# Altium footprint library AltiumDesigner.PcbLib: 151 footprints (part 4 of 10)
Each footprint in its own frame and in the unit in brackets; x right, y up, seen from the top. Pads: shape width x height; smd on the part's side, far side on the other; paste and mask are expansions set on the pad; w line width, h text height; cw(c..) or ccw(c..) is an arc to the next point about the centre after c.
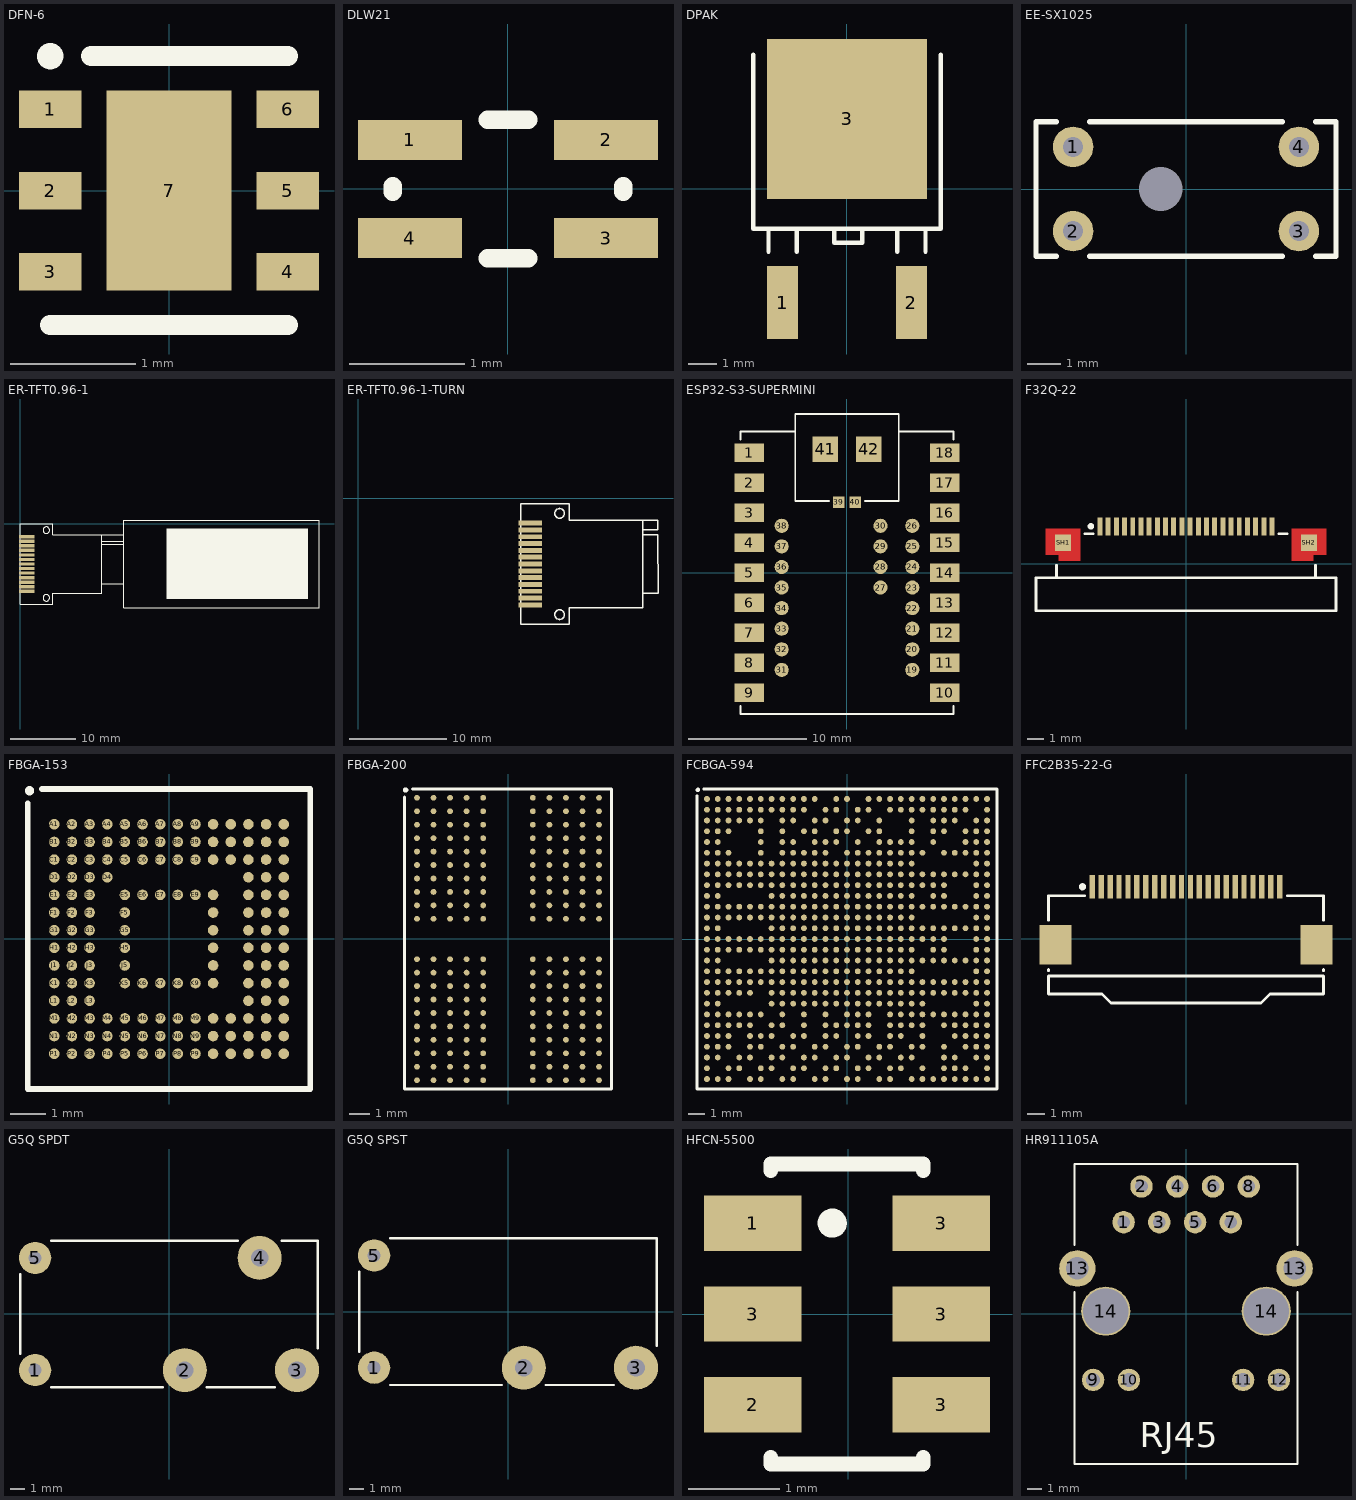
[diagram p3: the footprints below, top view; thin cyan lines are the x and y axes]

## DFN-6 [mm]
pads (7):
  rect 0.5x0.3 smd: 1(-0.95,0.65) 2(-0.95,0) 3(-0.95,-0.65) 4(0.95,-0.65) 5(0.95,0) 6(0.95,0.65)
  rect 1x1.6 smd: 7(0,0)
Top Overlay:
  circle w0.16: c-0.95,1.075 r0.025
  lines w0.16: -0.95,-1.075 0.95,-1.075 ; -0.625,1.075 0.95,1.075

## DLW21 [mm]
pads (4):
  rect 0.9x0.35 smd: 1(-0.85,0.425) 2(0.85,0.425) 3(0.85,-0.425) 4(-0.85,-0.425)
Top Overlay:
  lines w0.16: -1,-0.025 -1,0.025 ; -0.175,-0.6 0.175,-0.6 ; -0.175,0.6 0.175,0.6 ; 1,-0.025 1,0.025

## DPAK [mm]
pads (3):
  rect 1.1x2.6 smd: 1(-2.3,-4.05) 2(2.3,-4.05)
  rect 5.7x5.7 smd: 3(0,2.5)
Top Overlay:
  lines w0.16: -3.35,4.788 -3.35,-1.412 3.35,-1.413 3.35,4.787 ; -2.8,-2.238 -2.8,-1.413 ; -1.8,-2.238 -1.8,-1.413 ; -0.45,-1.413 -0.45,-1.925 0.55,-1.925 0.55,-1.413 ; 1.8,-2.238 1.8,-1.413 ; 2.8,-2.238 2.8,-1.413

## EE-SX1025 [mm]
pads (5):
  round 1.2 hole 0.6: 1(-3.35,1.25) 2(-3.35,-1.25) 3(3.35,-1.25) 4(3.35,1.25)
  round 1 hole 1.3 unplated: ""(-0.75,0)
Top Overlay:
  lines w0.16: -3.85,-2 -4.45,-2 -4.45,2 -3.85,2 ; -2.85,-2 2.85,-2 ; -2.85,2 2.85,2 ; 3.85,-2 4.45,-2 4.45,2 3.85,2

## ER-TFT0.96-1 [mm]
pads (13):
  rect 2.4x0.5 smd: 1(1,-10.4) 2(1,-9.7) 3(1,-9) 4(1,-8.3) 5(1,-7.6) 6(1,-6.9) 7(1,-6.2) 8(1,-5.5) 9(1,-4.8) 10(1,-4.1) 11(1,-3.4) 12(1,-2.7) 13(1,-2)
Top Overlay:
  circle w0.15: c4,-11.4 r0.5
  circle w0.15: c4,-1 r0.5
  rectangle: 22.5,-11.55 44.2,-0.75
  lines w0.15: 12.525,-9.2 15.9,-9.2 ; 12.525,-3.2 15.9,-3.2 ; 12.525,-2.7 15.9,-2.7 ; 15.9,-1.7 12.525,-1.7 ; 12.525,-1.7 12.525,-10.7 5,-10.7 5,-12.4 0,-12.4 0,0 5,0 5,-1.7 12.525,-1.7 ; 15.9,-12.95 15.9,0.55 45.9,0.55 45.9,-12.95 15.9,-12.95

## ER-TFT0.96-1-TURN [mm]
pads (13):
  rect 2.4x0.5 smd: 1(17.7,-10.95) 2(17.7,-10.25) 3(17.7,-9.55) 4(17.7,-8.85) 5(17.7,-8.15) 6(17.7,-7.45) 7(17.7,-6.75) 8(17.7,-6.05) 9(17.7,-5.35) 10(17.7,-4.65) 11(17.7,-3.95) 12(17.7,-3.25) 13(17.7,-2.55)
Top Overlay:
  circle w0.15: c20.7,-11.95 r0.5
  circle w0.15: c20.7,-1.55 r0.5
  lines w0.15: 29.225,-9.75 30.8,-9.75 30.8,-3.75 29.225,-3.75 ; 29.225,-3.25 30.8,-3.25 30.8,-2.25 29.225,-2.25 ; 29.225,-2.25 29.225,-11.25 21.7,-11.25 21.7,-12.95 16.7,-12.95 16.7,-0.55 21.7,-0.55 21.7,-2.25 29.225,-2.25
Bottom Overlay:
  rectangle: 1.7,-12.1 23.4,-1.3
  lines w0.15: 0,-13.5 0,0 30,0 30,-13.5 0,-13.5

## ESP32-S3-SUPERMINI [mm]
pads (42):
  rect 2.5x1.6 smd: 1(-8.3,10.2) 2(-8.3,7.65) 3(-8.3,5.1) 4(-8.3,2.55) 5(-8.3,0) 6(-8.3,-2.55) 7(-8.3,-5.1) 8(-8.3,-7.65) 9(-8.3,-10.2) 10(8.3,-10.2) 11(8.3,-7.65) 12(8.3,-5.1) 13(8.3,-2.55) 14(8.3,0) 15(8.3,2.55) 16(8.3,5.1) 17(8.3,7.65) 18(8.3,10.2)
  round 1.2 smd: 19(5.55,-8.25) 20(5.55,-6.5) 21(5.55,-4.75) 22(5.55,-3) 23(5.55,-1.25) 24(5.55,0.5) 25(5.55,2.25) 26(5.55,4) 27(2.85,-1.25) 28(2.85,0.5) 29(2.85,2.25) 30(2.85,4) 31(-5.55,-8.25) 32(-5.55,-6.5) 33(-5.55,-4.75) 34(-5.55,-3) 35(-5.55,-1.25) 36(-5.55,0.5) 37(-5.55,2.25) 38(-5.55,4)
  rect 1x1 smd: 39(-0.7,6) 40(0.7,6)
  rect 2.2x2.2 smd: 41(-1.85,10.5) 42(1.85,10.5)
Top Overlay:
  lines w0.16: -9.05,-11.325 -9.05,-12 9.05,-12 9.05,-11.325 ; -9.05,11.325 -9.05,12 -4.425,12 ; -1.525,6.1 -4.4,6.1 -4.4,13.5 4.4,13.5 4.4,6.1 1.525,6.1 ; 4.425,12 9.05,12 9.05,11.325

## F32Q-22 [mm]
pads (24):
  rect 0.3x1.1 smd: 1(-5.25,2.3) 2(-4.75,2.3) 3(-4.25,2.3) 4(-3.75,2.3) 5(-3.25,2.3) 6(-2.75,2.3) 7(-2.25,2.3) 8(-1.75,2.3) 9(-1.25,2.3) 10(-0.75,2.3) 11(-0.25,2.3) 12(0.25,2.3) 13(0.75,2.3) 14(1.25,2.3) 15(1.75,2.3) 16(2.25,2.3) 17(2.75,2.3) 18(3.25,2.3) 19(3.75,2.3) 20(4.25,2.3) 21(4.75,2.3) 22(5.25,2.3)
  rect 1x1 smd paste-1 mask+0: SH1(-7.5,1.3) SH2(7.5,1.3)
Top Layer:
  region: -6.45,0.2 -7.75,0.2 -7.75,0.55 -8.55,0.55 -8.55,2.15 -6.45,2.15
  region: 8.55,0.55 7.75,0.55 7.75,0.2 6.45,0.2 6.45,2.15 8.55,2.15
Top Overlay:
  circle w0.2: c-5.8,2.3 r0.1
  lines w0.16: -7.9,-0.85 -7.9,-0.075 ; -6.175,1.85 -5.675,1.85 ; 5.675,1.85 6.175,1.85 ; 7.9,-0.85 7.9,-0.075 ; -9.15,-2.85 9.15,-2.85 9.15,-0.85 -9.15,-0.85 -9.15,-2.85
Top Paste:
  region: 8.55,0.55 7.75,0.55 7.75,0.2 6.45,0.2 6.45,2.15 8.55,2.15
  region: -6.45,0.2 -7.75,0.2 -7.75,0.55 -8.55,0.55 -8.55,2.15 -6.45,2.15
Top Solder:
  region: 8.65,0.45 7.85,0.45 7.85,0.1 6.35,0.1 6.35,2.25 8.65,2.25
  region: -6.35,0.1 -7.85,0.1 -7.85,0.45 -8.65,0.45 -8.65,2.25 -6.35,2.25

## FBGA-153 [mm]
pads (153):
  round 0.3 smd: A1(-3.25,3.25) A2(-2.75,3.25) A3(-2.25,3.25) A4(-1.75,3.25) A5(-1.25,3.25) A6(-0.75,3.25) A7(-0.25,3.25) A8(0.25,3.25) A9(0.75,3.25) A10(1.25,3.25) A11(1.75,3.25) A12(2.25,3.25) A13(2.75,3.25) A14(3.25,3.25) B1(-3.25,2.75) B2(-2.75,2.75) B3(-2.25,2.75) B4(-1.75,2.75) B5(-1.25,2.75) B6(-0.75,2.75) B7(-0.25,2.75) B8(0.25,2.75) B9(0.75,2.75) B10(1.25,2.75) B11(1.75,2.75) B12(2.25,2.75) B13(2.75,2.75) B14(3.25,2.75) C1(-3.25,2.25) C2(-2.75,2.25) C3(-2.25,2.25) C4(-1.75,2.25) C5(-1.25,2.25) C6(-0.75,2.25) C7(-0.25,2.25) C8(0.25,2.25) C9(0.75,2.25) C10(1.25,2.25) C11(1.75,2.25) C12(2.25,2.25) C13(2.75,2.25) C14(3.25,2.25) D1(-3.25,1.75) D2(-2.75,1.75) D3(-2.25,1.75) D4(-1.75,1.75) D12(2.25,1.75) D13(2.75,1.75) D14(3.25,1.75) E1(-3.25,1.25) E2(-2.75,1.25) E3(-2.25,1.25) E5(-1.25,1.25) E6(-0.75,1.25) E7(-0.25,1.25) E8(0.25,1.25) E9(0.75,1.25) E10(1.25,1.25) E12(2.25,1.25) E13(2.75,1.25) E14(3.25,1.25) F1(-3.25,0.75) F2(-2.75,0.75) F3(-2.25,0.75) F5(-1.25,0.75) F10(1.25,0.75) F12(2.25,0.75) F13(2.75,0.75) F14(3.25,0.75) G1(-3.25,0.25) G2(-2.75,0.25) G3(-2.25,0.25) G5(-1.25,0.25) G10(1.25,0.25) G12(2.25,0.25) G13(2.75,0.25) G14(3.25,0.25) H1(-3.25,-0.25) H2(-2.75,-0.25) H3(-2.25,-0.25) H5(-1.25,-0.25) H10(1.25,-0.25) H12(2.25,-0.25) H13(2.75,-0.25) H14(3.25,-0.25) J1(-3.25,-0.75) J2(-2.75,-0.75) J3(-2.25,-0.75) J5(-1.25,-0.75) J10(1.25,-0.75) J12(2.25,-0.75) J13(2.75,-0.75) J14(3.25,-0.75) K1(-3.25,-1.25) K2(-2.75,-1.25) K3(-2.25,-1.25) K5(-1.25,-1.25) K6(-0.75,-1.25) K7(-0.25,-1.25) K8(0.25,-1.25) K9(0.75,-1.25) K10(1.25,-1.25) K12(2.25,-1.25) K13(2.75,-1.25) K14(3.25,-1.25) L1(-3.25,-1.75) L2(-2.75,-1.75) L3(-2.25,-1.75) L12(2.25,-1.75) L13(2.75,-1.75) L14(3.25,-1.75) M1(-3.25,-2.25) M2(-2.75,-2.25) M3(-2.25,-2.25) M4(-1.75,-2.25) M5(-1.25,-2.25) M6(-0.75,-2.25) M7(-0.25,-2.25) M8(0.25,-2.25) M9(0.75,-2.25) M10(1.25,-2.25) M11(1.75,-2.25) M12(2.25,-2.25) M13(2.75,-2.25) M14(3.25,-2.25) N1(-3.25,-2.75) N2(-2.75,-2.75) N3(-2.25,-2.75) N4(-1.75,-2.75) N5(-1.25,-2.75) N6(-0.75,-2.75) N7(-0.25,-2.75) N8(0.25,-2.75) N9(0.75,-2.75) N10(1.25,-2.75) N11(1.75,-2.75) N12(2.25,-2.75) N13(2.75,-2.75) N14(3.25,-2.75) P1(-3.25,-3.25) P2(-2.75,-3.25) P3(-2.25,-3.25) P4(-1.75,-3.25) P5(-1.25,-3.25) P6(-0.75,-3.25) P7(-0.25,-3.25) P8(0.25,-3.25) P9(0.75,-3.25) P10(1.25,-3.25) P11(1.75,-3.25) P12(2.25,-3.25) P13(2.75,-3.25) P14(3.25,-3.25)
Top Overlay:
  circle w0.16: c-3.95,4.2 r0.05
  lines w0.16: -4,3.85 -4,-4.25 4,-4.25 4,4.25 -3.6,4.25

## FBGA-200 [mm]
pads (200):
  round 0.28 smd: A1(-4.4,6.825) A2(-3.6,6.825) A3(-2.8,6.825) A4(-2,6.825) A5(-1.2,6.825) A8(1.2,6.825) A9(2,6.825) A10(2.8,6.825) A11(3.6,6.825) A12(4.4,6.825) AA1(-4.4,-6.175) AA2(-3.6,-6.175) AA3(-2.8,-6.175) AA4(-2,-6.175) AA5(-1.2,-6.175) AA8(1.2,-6.175) AA9(2,-6.175) AA10(2.8,-6.175) AA11(3.6,-6.175) AA12(4.4,-6.175) AB1(-4.4,-6.825) AB2(-3.6,-6.825) AB3(-2.8,-6.825) AB4(-2,-6.825) AB5(-1.2,-6.825) AB8(1.2,-6.825) AB9(2,-6.825) AB10(2.8,-6.825) AB11(3.6,-6.825) AB12(4.4,-6.825) B1(-4.4,6.175) B2(-3.6,6.175) B3(-2.8,6.175) B4(-2,6.175) B5(-1.2,6.175) B8(1.2,6.175) B9(2,6.175) B10(2.8,6.175) B11(3.6,6.175) B12(4.4,6.175) C1(-4.4,5.525) C2(-3.6,5.525) C3(-2.8,5.525) C4(-2,5.525) C5(-1.2,5.525) C8(1.2,5.525) C9(2,5.525) C10(2.8,5.525) C11(3.6,5.525) C12(4.4,5.525) D1(-4.4,4.875) D2(-3.6,4.875) D3(-2.8,4.875) D4(-2,4.875) D5(-1.2,4.875) D8(1.2,4.875) D9(2,4.875) D10(2.8,4.875) D11(3.6,4.875) D12(4.4,4.875) E1(-4.4,4.225) E2(-3.6,4.225) E3(-2.8,4.225) E4(-2,4.225) E5(-1.2,4.225) E8(1.2,4.225) E9(2,4.225) E10(2.8,4.225) E11(3.6,4.225) E12(4.4,4.225) F1(-4.4,3.575) F2(-3.6,3.575) F3(-2.8,3.575) F4(-2,3.575) F5(-1.2,3.575) F8(1.2,3.575) F9(2,3.575) F10(2.8,3.575) F11(3.6,3.575) F12(4.4,3.575) G1(-4.4,2.925) G2(-3.6,2.925) G3(-2.8,2.925) G4(-2,2.925) G5(-1.2,2.925) G8(1.2,2.925) G9(2,2.925) G10(2.8,2.925) G11(3.6,2.925) G12(4.4,2.925) H1(-4.4,2.275) H2(-3.6,2.275) H3(-2.8,2.275) H4(-2,2.275) H5(-1.2,2.275) H8(1.2,2.275) H9(2,2.275) H10(2.8,2.275) H11(3.6,2.275) H12(4.4,2.275) J1(-4.4,1.625) J2(-3.6,1.625) J3(-2.8,1.625) J4(-2,1.625) J5(-1.2,1.625) J8(1.2,1.625) J9(2,1.625) J10(2.8,1.625) J11(3.6,1.625) J12(4.4,1.625) K1(-4.4,0.975) K2(-3.6,0.975) K3(-2.8,0.975) K4(-2,0.975) K5(-1.2,0.975) K8(1.2,0.975) K9(2,0.975) K10(2.8,0.975) K11(3.6,0.975) K12(4.4,0.975) N1(-4.4,-0.975) N2(-3.6,-0.975) N3(-2.8,-0.975) N4(-2,-0.975) N5(-1.2,-0.975) N8(1.2,-0.975) N9(2,-0.975) N10(2.8,-0.975) N11(3.6,-0.975) N12(4.4,-0.975) P1(-4.4,-1.625) P2(-3.6,-1.625) P3(-2.8,-1.625) P4(-2,-1.625) P5(-1.2,-1.625) P8(1.2,-1.625) P9(2,-1.625) P10(2.8,-1.625) P11(3.6,-1.625) P12(4.4,-1.625) R1(-4.4,-2.275) R2(-3.6,-2.275) R3(-2.8,-2.275) R4(-2,-2.275) R5(-1.2,-2.275) R8(1.2,-2.275) R9(2,-2.275) R10(2.8,-2.275) R11(3.6,-2.275) R12(4.4,-2.275) T1(-4.4,-2.925) T2(-3.6,-2.925) T3(-2.8,-2.925) T4(-2,-2.925) T5(-1.2,-2.925) T8(1.2,-2.925) T9(2,-2.925) T10(2.8,-2.925) T11(3.6,-2.925) T12(4.4,-2.925) U1(-4.4,-3.575) U2(-3.6,-3.575) U3(-2.8,-3.575) U4(-2,-3.575) U5(-1.2,-3.575) U8(1.2,-3.575) U9(2,-3.575) U10(2.8,-3.575) U11(3.6,-3.575) U12(4.4,-3.575) V1(-4.4,-4.225) V2(-3.6,-4.225) V3(-2.8,-4.225) V4(-2,-4.225) V5(-1.2,-4.225) V8(1.2,-4.225) V9(2,-4.225) V10(2.8,-4.225) V11(3.6,-4.225) V12(4.4,-4.225) W1(-4.4,-4.875) W2(-3.6,-4.875) W3(-2.8,-4.875) W4(-2,-4.875) W5(-1.2,-4.875) W8(1.2,-4.875) W9(2,-4.875) W10(2.8,-4.875) W11(3.6,-4.875) W12(4.4,-4.875) Y1(-4.4,-5.525) Y2(-3.6,-5.525) Y3(-2.8,-5.525) Y4(-2,-5.525) Y5(-1.2,-5.525) Y8(1.2,-5.525) Y9(2,-5.525) Y10(2.8,-5.525) Y11(3.6,-5.525) Y12(4.4,-5.525)
Top Overlay:
  circle w0.16: c-4.95,7.2 r0.05
  lines w0.16: -5,6.85 -5,-7.25 5,-7.25 5,7.25 -4.6,7.25

## FCBGA-594 [mm]
pads (594):
  round 0.35 smd: A1(-8.45,8.45) A2(-7.8,8.45) A3(-7.15,8.45) A4(-6.5,8.45) A5(-5.85,8.45) A6(-5.2,8.45) A7(-4.55,8.45) A8(-3.9,8.45) A9(-3.25,8.45) A10(-2.6,8.45) A11(-1.95,8.45) A13(-0.65,8.45) A14(0,8.45) A16(1.3,8.45) A17(1.95,8.45) A18(2.6,8.45) A19(3.25,8.45) A20(3.9,8.45) A21(4.55,8.45) A22(5.2,8.45) A23(5.85,8.45) A24(6.5,8.45) A25(7.15,8.45) A26(7.8,8.45) A27(8.45,8.45) AA1(-8.45,-4.55) AA2(-7.8,-4.55) AA3(-7.15,-4.55) AA4(-6.5,-4.55) AA5(-5.85,-4.55) AA6(-5.2,-4.55) AA8(-3.9,-4.55) AA10(-2.6,-4.55) AA12(-1.3,-4.55) AA14(0,-4.55) AA15(0.65,-4.55) AA16(1.3,-4.55) AA18(2.6,-4.55) AA19(3.25,-4.55) AA20(3.9,-4.55) AA21(4.55,-4.55) AA22(5.2,-4.55) AA23(5.85,-4.55) AA24(6.5,-4.55) AA25(7.15,-4.55) AA26(7.8,-4.55) AA27(8.45,-4.55) AB1(-8.45,-5.2) AB2(-7.8,-5.2) AB3(-7.15,-5.2) AB4(-6.5,-5.2) AB5(-5.85,-5.2) AB7(-4.55,-5.2) AB8(-3.9,-5.2) AB10(-2.6,-5.2) AB12(-1.3,-5.2) AB13(-0.65,-5.2) AB14(0,-5.2) AB15(0.65,-5.2) AB16(1.3,-5.2) AB18(2.6,-5.2) AB19(3.25,-5.2) AB20(3.9,-5.2) AB21(4.55,-5.2) AB23(5.85,-5.2) AB24(6.5,-5.2) AB25(7.15,-5.2) AB26(7.8,-5.2) AB27(8.45,-5.2) AC1(-8.45,-5.85) AC2(-7.8,-5.85) AC3(-7.15,-5.85) AC5(-5.85,-5.85) AC6(-5.2,-5.85) AC7(-4.55,-5.85) AC9(-3.25,-5.85) AC10(-2.6,-5.85) AC12(-1.3,-5.85) AC13(-0.65,-5.85) AC15(0.65,-5.85) AC16(1.3,-5.85) AC18(2.6,-5.85) AC19(3.25,-5.85) AC21(4.55,-5.85) AC24(6.5,-5.85) AC25(7.15,-5.85) AC26(7.8,-5.85) AC27(8.45,-5.85) AD1(-8.45,-6.5) AD2(-7.8,-6.5) AD3(-7.15,-6.5) AD5(-5.85,-6.5) AD6(-5.2,-6.5) AD8(-3.9,-6.5) AD9(-3.25,-6.5) AD11(-1.95,-6.5) AD12(-1.3,-6.5) AD14(0,-6.5) AD15(0.65,-6.5) AD17(1.95,-6.5) AD18(2.6,-6.5) AD20(3.9,-6.5) AD21(4.55,-6.5) AD23(5.85,-6.5) AD25(7.15,-6.5) AD26(7.8,-6.5) AD27(8.45,-6.5) AE1(-8.45,-7.15) AE2(-7.8,-7.15) AE4(-6.5,-7.15) AE5(-5.85,-7.15) AE7(-4.55,-7.15) AE8(-3.9,-7.15) AE10(-2.6,-7.15) AE11(-1.95,-7.15) AE13(-0.65,-7.15) AE14(0,-7.15) AE16(1.3,-7.15) AE17(1.95,-7.15) AE19(3.25,-7.15) AE20(3.9,-7.15) AE23(5.85,-7.15) AE24(6.5,-7.15) AE26(7.8,-7.15) AE27(8.45,-7.15) AF1(-8.45,-7.8) AF3(-7.15,-7.8) AF4(-6.5,-7.8) AF6(-5.2,-7.8) AF7(-4.55,-7.8) AF9(-3.25,-7.8) AF10(-2.6,-7.8) AF12(-1.3,-7.8) AF13(-0.65,-7.8) AF15(0.65,-7.8) AF16(1.3,-7.8) AF18(2.6,-7.8) AF19(3.25,-7.8) AF21(4.55,-7.8) AF23(5.85,-7.8) AF24(6.5,-7.8) AF25(7.15,-7.8) AF27(8.45,-7.8) AG1(-8.45,-8.45) AG2(-7.8,-8.45) AG3(-7.15,-8.45) AG5(-5.85,-8.45) AG6(-5.2,-8.45) AG8(-3.9,-8.45) AG9(-3.25,-8.45) AG11(-1.95,-8.45) AG12(-1.3,-8.45) AG14(0,-8.45) AG15(0.65,-8.45) AG17(1.95,-8.45) AG18(2.6,-8.45) AG20(3.9,-8.45) AG21(4.55,-8.45) AG22(5.2,-8.45) AG23(5.85,-8.45) AG24(6.5,-8.45) AG25(7.15,-8.45) AG26(7.8,-8.45) AG27(8.45,-8.45) B1(-8.45,7.8) B2(-7.8,7.8) B3(-7.15,7.8) B4(-6.5,7.8) B5(-5.85,7.8) B6(-5.2,7.8) B7(-4.55,7.8) B8(-3.9,7.8) B9(-3.25,7.8) B10(-2.6,7.8) B12(-1.3,7.8) B13(-0.65,7.8) B15(0.65,7.8) B16(1.3,7.8) B18(2.6,7.8) B19(3.25,7.8) B20(3.9,7.8) B21(4.55,7.8) B22(5.2,7.8) B23(5.85,7.8) B24(6.5,7.8) B25(7.15,7.8) B27(8.45,7.8) C1(-8.45,7.15) C2(-7.8,7.15) C3(-7.15,7.15) C4(-6.5,7.15) C5(-5.85,7.15) C6(-5.2,7.15) C8(-3.9,7.15) C9(-3.25,7.15) C11(-1.95,7.15) C12(-1.3,7.15) C14(0,7.15) C15(0.65,7.15) C17(1.95,7.15) C20(3.9,7.15) C22(5.2,7.15) C23(5.85,7.15) C24(6.5,7.15) C26(7.8,7.15) C27(8.45,7.15) D1(-8.45,6.5) D2(-7.8,6.5) D3(-7.15,6.5) D6(-5.2,6.5) D8(-3.9,6.5) D10(-2.6,6.5) D11(-1.95,6.5) D13(-0.65,6.5) D14(0,6.5) D16(1.3,6.5) D17(1.95,6.5) D20(3.9,6.5) D22(5.2,6.5) D23(5.85,6.5) D25(7.15,6.5) D26(7.8,6.5) D27(8.45,6.5) E1(-8.45,5.85) E2(-7.8,5.85) E6(-5.2,5.85) E8(-3.9,5.85) E9(-3.25,5.85) E11(-1.95,5.85) E12(-1.3,5.85) E13(-0.65,5.85) E15(0.65,5.85) E17(1.95,5.85) E18(2.6,5.85) E19(3.25,5.85) E20(3.9,5.85) E22(5.2,5.85) E25(7.15,5.85) E26(7.8,5.85) E27(8.45,5.85) F1(-8.45,5.2) F2(-7.8,5.2) F3(-7.15,5.2) F6(-5.2,5.2) F8(-3.9,5.2) F9(-3.25,5.2) F10(-2.6,5.2) F11(-1.95,5.2) F12(-1.3,5.2) F14(0,5.2) F15(0.65,5.2) F16(1.3,5.2) F17(1.95,5.2) F18(2.6,5.2) F19(3.25,5.2) F20(3.9,5.2) F21(4.55,5.2) F23(5.85,5.2) F24(6.5,5.2) F25(7.15,5.2) F26(7.8,5.2) F27(8.45,5.2) G1(-8.45,4.55) G2(-7.8,4.55) G3(-7.15,4.55) G4(-6.5,4.55) G5(-5.85,4.55) G6(-5.2,4.55) G7(-4.55,4.55) G8(-3.9,4.55) G9(-3.25,4.55) G10(-2.6,4.55) G11(-1.95,4.55) G12(-1.3,4.55) G13(-0.65,4.55) G14(0,4.55) G15(0.65,4.55) G16(1.3,4.55) G17(1.95,4.55) G18(2.6,4.55) G19(3.25,4.55) G20(3.9,4.55) G26(7.8,4.55) G27(8.45,4.55) H1(-8.45,3.9) H2(-7.8,3.9) H3(-7.15,3.9) H4(-6.5,3.9) H5(-5.85,3.9) H6(-5.2,3.9) H7(-4.55,3.9) H8(-3.9,3.9) H9(-3.25,3.9) H10(-2.6,3.9) H11(-1.95,3.9) H12(-1.3,3.9) H13(-0.65,3.9) H14(0,3.9) H15(0.65,3.9) H16(1.3,3.9) H17(1.95,3.9) H18(2.6,3.9) H19(3.25,3.9) H20(3.9,3.9) H21(4.55,3.9) H22(5.2,3.9) H23(5.85,3.9) H24(6.5,3.9) H25(7.15,3.9) H26(7.8,3.9) H27(8.45,3.9) J1(-8.45,3.25) J2(-7.8,3.25) J3(-7.15,3.25) J4(-6.5,3.25) J5(-5.85,3.25) J6(-5.2,3.25) J7(-4.55,3.25) J8(-3.9,3.25) J9(-3.25,3.25) J10(-2.6,3.25) J11(-1.95,3.25) J12(-1.3,3.25) J13(-0.65,3.25) J14(0,3.25) J15(0.65,3.25) J16(1.3,3.25) J17(1.95,3.25) J18(2.6,3.25) J19(3.25,3.25) J20(3.9,3.25) J21(4.55,3.25) J22(5.2,3.25) J23(5.85,3.25) J26(7.8,3.25) J27(8.45,3.25) K1(-8.45,2.6) K2(-7.8,2.6) K7(-4.55,2.6) K8(-3.9,2.6) K9(-3.25,2.6) K10(-2.6,2.6) K11(-1.95,2.6) K12(-1.3,2.6) K13(-0.65,2.6) K14(0,2.6) K15(0.65,2.6) K16(1.3,2.6) K17(1.95,2.6) K18(2.6,2.6) K19(3.25,2.6) K20(3.9,2.6) K22(5.2,2.6) K23(5.85,2.6) K26(7.8,2.6) K27(8.45,2.6) L1(-8.45,1.95) L2(-7.8,1.95) L3(-7.15,1.95) L4(-6.5,1.95) L5(-5.85,1.95) L6(-5.2,1.95) L7(-4.55,1.95) L8(-3.9,1.95) L9(-3.25,1.95) L10(-2.6,1.95) L11(-1.95,1.95) L12(-1.3,1.95) L13(-0.65,1.95) L14(0,1.95) L15(0.65,1.95) L16(1.3,1.95) L17(1.95,1.95) L18(2.6,1.95) L19(3.25,1.95) L20(3.9,1.95) L21(4.55,1.95) L22(5.2,1.95) L23(5.85,1.95) L24(6.5,1.95) L25(7.15,1.95) L26(7.8,1.95) L27(8.45,1.95) M1(-8.45,1.3) M2(-7.8,1.3) M3(-7.15,1.3) M4(-6.5,1.3) M5(-5.85,1.3) M6(-5.2,1.3) M7(-4.55,1.3) M8(-3.9,1.3) M9(-3.25,1.3) M10(-2.6,1.3) M11(-1.95,1.3) M12(-1.3,1.3) M13(-0.65,1.3) M14(0,1.3) M15(0.65,1.3) M16(1.3,1.3) M17(1.95,1.3) M18(2.6,1.3) M19(3.25,1.3) M20(3.9,1.3) M26(7.8,1.3) M27(8.45,1.3) N1(-8.45,0.65) N2(-7.8,0.65) N7(-4.55,0.65) N8(-3.9,0.65) N9(-3.25,0.65) N10(-2.6,0.65) N11(-1.95,0.65) N12(-1.3,0.65) N13(-0.65,0.65) N14(0,0.65) N15(0.65,0.65) N16(1.3,0.65) N17(1.95,0.65) N18(2.6,0.65) N19(3.25,0.65) N20(3.9,0.65) N21(4.55,0.65) N22(5.2,0.65) N23(5.85,0.65) N24(6.5,0.65) N25(7.15,0.65) N26(7.8,0.65) N27(8.45,0.65) P1(-8.45,0) P2(-7.8,0) P3(-7.15,0) P4(-6.5,0) P5(-5.85,0) P6(-5.2,0) P7(-4.55,0) P8(-3.9,0) P9(-3.25,0) P10(-2.6,0) P11(-1.95,0) P12(-1.3,0) P13(-0.65,0) P14(0,0) P15(0.65,0) P16(1.3,0) P17(1.95,0) P18(2.6,0) P19(3.25,0) P20(3.9,0) P21(4.55,0) P22(5.2,0) P23(5.85,0) P26(7.8,0) P27(8.45,0) R1(-8.45,-0.65) R2(-7.8,-0.65) R3(-7.15,-0.65) R4(-6.5,-0.65) R5(-5.85,-0.65) R6(-5.2,-0.65) R7(-4.55,-0.65) R8(-3.9,-0.65) R9(-3.25,-0.65) R10(-2.6,-0.65) R11(-1.95,-0.65) R12(-1.3,-0.65) R13(-0.65,-0.65) R14(0,-0.65) R15(0.65,-0.65) R16(1.3,-0.65) R17(1.95,-0.65) R18(2.6,-0.65) R19(3.25,-0.65) R20(3.9,-0.65) R22(5.2,-0.65) R23(5.85,-0.65) R26(7.8,-0.65) R27(8.45,-0.65) T1(-8.45,-1.3) T2(-7.8,-1.3) T7(-4.55,-1.3) T8(-3.9,-1.3) T9(-3.25,-1.3) T10(-2.6,-1.3) T11(-1.95,-1.3) T12(-1.3,-1.3) T13(-0.65,-1.3) T14(0,-1.3) T15(0.65,-1.3) T16(1.3,-1.3) T17(1.95,-1.3) T18(2.6,-1.3) T19(3.25,-1.3) T20(3.9,-1.3) T21(4.55,-1.3) T22(5.2,-1.3) T23(5.85,-1.3) T24(6.5,-1.3) T25(7.15,-1.3) T26(7.8,-1.3) T27(8.45,-1.3) U1(-8.45,-1.95) U2(-7.8,-1.95) U3(-7.15,-1.95) U4(-6.5,-1.95) U5(-5.85,-1.95) U6(-5.2,-1.95) U7(-4.55,-1.95) U8(-3.9,-1.95) U9(-3.25,-1.95) U10(-2.6,-1.95) U11(-1.95,-1.95) U12(-1.3,-1.95) U13(-0.65,-1.95) U14(0,-1.95) U15(0.65,-1.95) U16(1.3,-1.95) U17(1.95,-1.95) U18(2.6,-1.95) U19(3.25,-1.95) U20(3.9,-1.95) U26(7.8,-1.95) U27(8.45,-1.95) V1(-8.45,-2.6) V2(-7.8,-2.6) V3(-7.15,-2.6) V4(-6.5,-2.6) V5(-5.85,-2.6) V6(-5.2,-2.6) V7(-4.55,-2.6) V8(-3.9,-2.6) V9(-3.25,-2.6) V10(-2.6,-2.6) V11(-1.95,-2.6) V12(-1.3,-2.6) V13(-0.65,-2.6) V14(0,-2.6) V15(0.65,-2.6) V16(1.3,-2.6) V17(1.95,-2.6) V18(2.6,-2.6) V19(3.25,-2.6) V20(3.9,-2.6) V21(4.55,-2.6) V22(5.2,-2.6) V23(5.85,-2.6) V24(6.5,-2.6) V25(7.15,-2.6) V26(7.8,-2.6) V27(8.45,-2.6) W1(-8.45,-3.25) W2(-7.8,-3.25) W3(-7.15,-3.25) W4(-6.5,-3.25) W5(-5.85,-3.25) W7(-4.55,-3.25) W8(-3.9,-3.25) W9(-3.25,-3.25) W10(-2.6,-3.25) W11(-1.95,-3.25) W12(-1.3,-3.25) W13(-0.65,-3.25) W14(0,-3.25) W15(0.65,-3.25) W16(1.3,-3.25) W17(1.95,-3.25) W18(2.6,-3.25) W19(3.25,-3.25) W20(3.9,-3.25) W21(4.55,-3.25) W22(5.2,-3.25) W23(5.85,-3.25) W24(6.5,-3.25) W25(7.15,-3.25) W26(7.8,-3.25) W27(8.45,-3.25) Y1(-8.45,-3.9) Y2(-7.8,-3.9) Y7(-4.55,-3.9) Y8(-3.9,-3.9) Y9(-3.25,-3.9) Y10(-2.6,-3.9) Y11(-1.95,-3.9) Y12(-1.3,-3.9) Y13(-0.65,-3.9) Y14(0,-3.9) Y15(0.65,-3.9) Y16(1.3,-3.9) Y17(1.95,-3.9) Y18(2.6,-3.9) Y19(3.25,-3.9) Y20(3.9,-3.9) Y21(4.55,-3.9) Y26(7.8,-3.9) Y27(8.45,-3.9)
Top Overlay:
  circle w0.16: c-9,9 r0.05
  lines w0.16: -9.05,8.65 -9.05,-9.05 9.05,-9.05 9.05,9.05 -8.65,9.05

## FFC2B35-22-G [mm]
pads (24):
  rect 0.3x1.3 smd paste-1: 1(-5.25,2.925) 2(-4.75,2.925) 3(-4.25,2.925) 4(-3.75,2.925) 5(-3.25,2.925) 6(-2.75,2.925) 7(-2.25,2.925) 8(-1.75,2.925) 9(-1.25,2.925) 10(-0.75,2.925) 11(-0.25,2.925) 12(0.25,2.925) 13(0.75,2.925) 14(1.25,2.925) 15(1.75,2.925) 16(2.25,2.925) 17(2.75,2.925) 18(3.25,2.925) 19(3.75,2.925) 20(4.25,2.925) 21(4.75,2.925) 22(5.25,2.925)
  rect 1.8x2.2 smd paste-1: ""(-7.3,-0.325) ""(7.3,-0.325)
Top Overlay:
  circle w0.2: c-5.8,2.925 r0.1
  lines w0.16: -7.7,-1.775 -7.7,-1.7 ; -7.7,1.05 -7.7,2.425 -5.675,2.425 ; 5.675,2.425 7.7,2.425 7.7,1.05 ; 7.7,-1.775 7.7,-1.7 ; -7.7,-3.075 -7.7,-2.075 7.7,-2.075 7.7,-3.075 4.7,-3.075 4.2,-3.575 -4.2,-3.575 -4.7,-3.075 -7.7,-3.075

## G5Q SPDT [mm]
pads (5):
  round 2.2 hole 0.9: 1(-9.125,-3.825) 5(-9.125,3.825)
  round 3 hole 1.2: 2(1.075,-3.825) 3(8.725,-3.825) 4(6.175,3.825)
Top Overlay:
  lines w0.16: -10.15,-2.725 -10.15,2.725 ; -8.025,-5 -0.425,-5 ; -8.025,5 4.675,5 ; 2.575,-5 7.225,-5 ; 7.675,5 10.15,5 10.15,-2.325

## G5Q SPST [mm]
pads (4):
  round 2.2 hole 0.9: 1(-9.125,-3.825) 5(-9.125,3.825)
  round 3 hole 1.2: 2(1.075,-3.825) 3(8.725,-3.825)
Top Overlay:
  lines w0.16: -10.15,-2.725 -10.15,2.725 ; -8.025,-5 -0.425,-5 ; -8.025,5 10.15,5 10.15,-2.325 ; 2.575,-5 7.225,-5

## HFCN-5500 [mm]
pads (6):
  rect 1.07x0.61 smd paste-2: 1(-1.05,1) 2(-1.05,-1) 3(-1.05,0) 3(1.025,-1) 3(1.025,0) 3(1.025,1)
Top Overlay:
  circle w0.16: c-0.175,1 r0.08
  lines w0.16: -0.85,-1.575 -0.85,-1.65 0.825,-1.65 0.825,-1.575 ; -0.85,1.575 -0.85,1.65 0.825,1.65 0.825,1.575

## HR911105A [mm]
pads (16):
  round 1.6 hole 0.9: 1(-4.45,6.55) 2(-3.175,9.1) 3(-1.9,6.55) 4(-0.625,9.1) 5(0.65,6.55) 6(1.925,9.1) 7(3.2,6.55) 8(4.475,9.1)
  round 1.6 hole 1: 9(-6.625,-4.7) 10(-4.075,-4.7) 11(4.075,-4.7) 12(6.625,-4.7)
  round 2.6 hole 1.6: 13(-7.75,3.25) 13(7.75,3.25)
  round 3.5 hole 3.25: 14(-5.725,0.2) 14(5.725,0.2)
Top Overlay:
  lines w0.16: -7.95,1.575 -7.95,-10.7 7.95,-10.7 7.95,1.575 ; -7.95,4.925 -7.95,10.7 7.95,10.7 7.95,4.925
  text "RJ45" at -3.299,-9.5 h1.8